# Altium integrated library PG151101S11.IntLib: 1 symbol
Pins are listed as number, name and electrical type; pins without a type are passive.

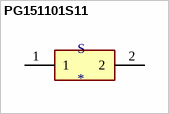
[diagram p0: symbol PG151101S11]

## PG151101S11
designator S
Keyswitch; MP: PG151101S11; MF: Kailh; SnapEDA_Link: https://www.snapeda.com/parts/PG151101S11/Kailh/view-part/4218555/?ref=snap; Price: None; Availability: Unavailable; Value: *; Package: Package
footprint SW_PG151101S11
pins: 1, 2